# EAGLE library part 750318383 (library WE-OLTI)
WE-OLTI Offline Flyback Transformers Characteristics Nominal input voltage: 85–265 VAC (120–375 VDC) Small size Low leakage inductance Multiple-output options Operating temperature: −40 °C to +125 °C Isolation Voltage: 2 kVAC to 5 kVAC Options for fixed frequency or quasi-resonant mode operation Most products meet reinforced insulation Applications Industrial controls USB chargers Utility metering devices Process controls Factory automation Security systems Garage door opener auxiliary supplies Home appliances Especially designed for several ICs from Texas Instruments <https://www.we-online.com/components/media/o814034v209%20UtOLTI%20Group%20CGI.jpg> Details see: www.we-online.com/en/components/products/WE-OLTI <www.we-online.com/catalog/WE-OLTI/?utm_source=eagle_model&utm_medium=description_link&utm_campaign=eisos_eagle> Created by Ella Wu 2025-02-06 2025 (C) Wurth Elektronik
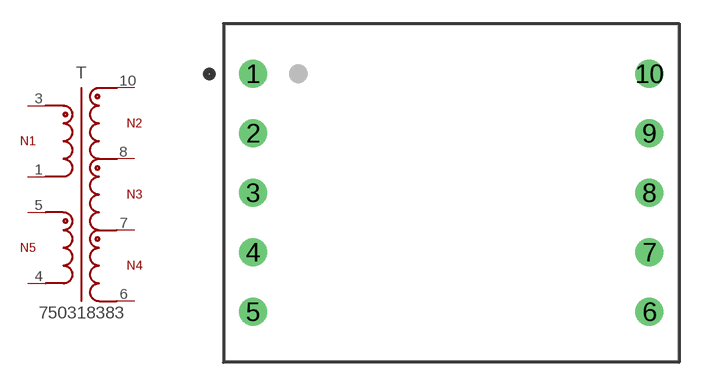
[diagram p18: symbol with the pads of WE-OLTI_EFD20_L21.5W29H12.45; footprint WE-OLTI_EFD20_L21.5W29H12.45]

Designator prefix T

## 750318383 (DATASHEET-URL: https://www.we-online.com/redexpert/spec/750318383?ae; FSWITCH: 66kHz; HEIGHT: 12.45mm; IOUT1: 300mA; IOUT2: 2000mA; IOUT3: 300mA; ISAT: 1.4A; L: 680uH; LENGTH: 21.5mm; MOUNT: THT; N: 29.33:1:1.67:3:3; PART-NUMBER: 750318383; SIZE: EFD20; VALUE: 680uH; VAUX: 15V; VIN: 85 - 265 V (AC); VOUT1: 12V; VOUT2: 7V; VOUT3: -15V; VT: 3750V(AC); WIDTH: 29mm)  [WE-OLTI_EFD20_L21.5W29H12.45]
1  1  pas
3  3  pas
4  4  pas
5  5  pas
6  6  pas
7  7  pas
8  8  pas
10  10  pas

## Footprint WE-OLTI_EFD20_L21.5W29H12.45 (pad centres in mm)
WE-OLTI Offline Flyback Transformers Size:EFD20,THT,10pins LXWXH=21.5X29X12.45mm Bobbin: 070-5982
drill 1.2: 1 -12.7,7.62; 2 -12.7,3.81; 3 -12.7,0; 4 -12.7,-3.81; 5 -12.7,-7.62; 6 12.7,-7.62; 7 12.7,-3.81; 8 12.7,0; 9 12.7,3.81; 10 12.7,7.62